# EAGLE library part SFV14R-3STBE1HLF (library SFV14R-3STBE1HLF)
0.50mm Flex Connector, SFV-R Series, 14 Position, Bottom Side Contact, Side Entry Surface Mount ZIF Connector, Halogen Free, Lead Free with Cable-Lock, Gold Flash Source: Datasheet <https://cdn.amphenol-cs.com/media/wysiwyg/files/drawing/10171071.pdf>
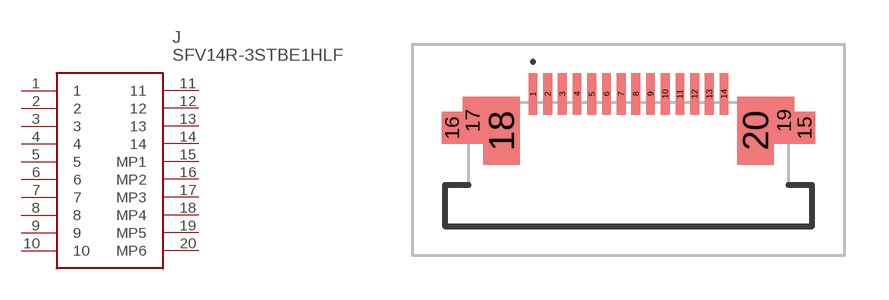
[diagram p0: symbol with the pads of SFV14R3STBE1HLF; footprint SFV14R3STBE1HLF]

Designator prefix J

## SFV14R-3STBE1HLF (Description: 0.50mm Flex Connector, SFV-R Series, 14 Position, Bottom Side Contact, Side Entry Surface Mount ZIF Connector, Halogen Free, Lead Free with Cable-Lock, Gold Flash; Height: 2mm; Manufacturer_Name: Amphenol Communications Solutions; Manufacturer_Part_Number: SFV14R-3STBE1HLF)  [SFV14R3STBE1HLF]
1  1
2  2
3  3
4  4
5  5
6  6
7  7
8  8
9  9
10  10
11  11
12  12
13  13
14  14
15  MP1
16  MP2
17  MP3
18  MP4
19  MP5
20  MP6

## Footprint SFV14R3STBE1HLF (pad centres in mm)
SFV14R-3STBE1HLF-2
smd 0.3 x 1.4: 1 -3.25,0.1; 2 -2.75,0.1; 3 -2.25,0.1; 4 -1.75,0.1; 5 -1.25,0.1; 6 -0.75,0.1; 7 -0.25,0.1; 8 0.25,0.1; 9 0.75,0.1; 10 1.25,0.1; 11 1.75,0.1; 12 2.25,0.1; 13 2.75,0.1; 14 3.25,0.1
smd 0.7 x 1.1: 15 6,-1.05; 16 -6,-1.05
smd 0.7 x 1.6: 17 -5.3,-0.8; 19 5.3,-0.8
smd 1.25 x 2.3: 18 -4.325,-1.15; 20 4.325,-1.15